# Altium footprint library TMC2100_QFN.PCBLIB: 1 footprints
Each footprint in its own frame and in the unit in brackets; x right, y up, seen from the top. Pads: shape width x height; smd on the part's side, far side on the other; paste and mask are expansions set on the pad; w line width, h text height; cw(c..) or ccw(c..) is an arc to the next point about the centre after c.
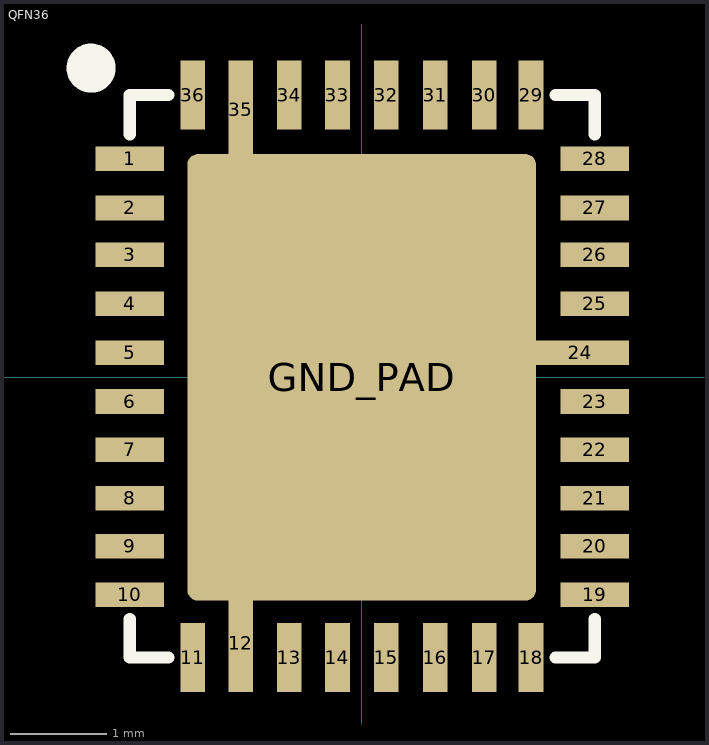
[diagram p0: the footprint, top view; thin cyan lines are the x and y axes]

## QFN36 [mil]
pads (37):
  rect 28x10 smd: 1(-94.49,89) 2(-94.49,69) 3(-94.49,50) 4(-94.49,30) 5(-94.49,10) 6(-94.49,-9.84) 7(-94.49,-29.53) 8(-94.49,-49.21) 9(-94.49,-68.9) 10(-94.49,-88.58) 19(95,-88.58) 20(95,-68.9) 21(95,-49.21) 22(95,-29.53) 23(95,-9.84) 25(95,30) 26(95,50) 27(95,69) 28(95,89)
  rect 10x28 smd: 11(-68.9,-114.17) 13(-29.53,-114.17) 14(-9.84,-114.17) 15(10,-114.17) 16(30,-114.17) 17(50,-114.17) 18(69,-114.17) 29(69,115) 30(50,115) 31(30,115) 32(10,115) 33(-9.84,115) 34(-29.53,115) 36(-68.9,115)
  rect 10x40 smd: 12(-49.21,-108.27) 35(-49.21,109)
  rect 40x10 smd: 24(89,10)
  rrect6% 142x182 smd: GND_PAD(0,0)
Top Overlay:
  circle w10: c-110.24,126 r5
  lines w5: -94.49,-98.43 -94.49,-114.17 -78.74,-114.17 ; -94.49,99 -94.49,115 -78.74,115 ; 79,-114.17 95,-114.17 95,-98.43 ; 79,115 95,115 95,99